# Altium schematic symbol library PCAL6416APW.SchLib: 2 symbols
Pins are listed as number, name and electrical type; pins without a type are passive.

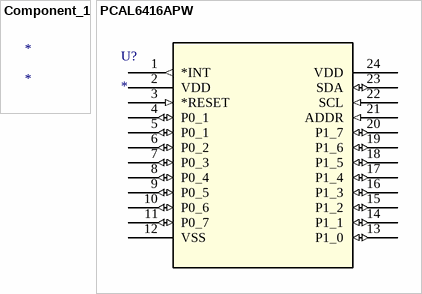
[diagram p0: symbols Component_1 to PCAL6416APW]

## Component_1
designator *

## PCAL6416APW
designator U?
No Description Available; Mfr_Name: NXP; RefDes: RefDes; Type: Type
footprint TSSOP24_4P5X7P9_NXP
pins: 1 *INT (out), 2 VDD (power), 3 *RESET (in), 4 P0_1 (io), 5 P0_1 (io), 6 P0_2 (io), 7 P0_3 (io), 8 P0_4 (io), 9 P0_5 (io), 10 P0_6 (io), 11 P0_7 (io), 12 VSS (power), 13 P1_0 (io), 14 P1_1 (io), 15 P1_2 (io), 16 P1_3 (io), 17 P1_4 (io), 18 P1_5 (io), 19 P1_6 (io), 20 P1_7 (io), 21 ADDR (in), 22 SCL (in), 23 SDA (io), 24 VDD (power)